# Altium schematic symbol library Diods.SchLib: 14 symbols
Pins are listed as number, name and electrical type; pins without a type are passive.

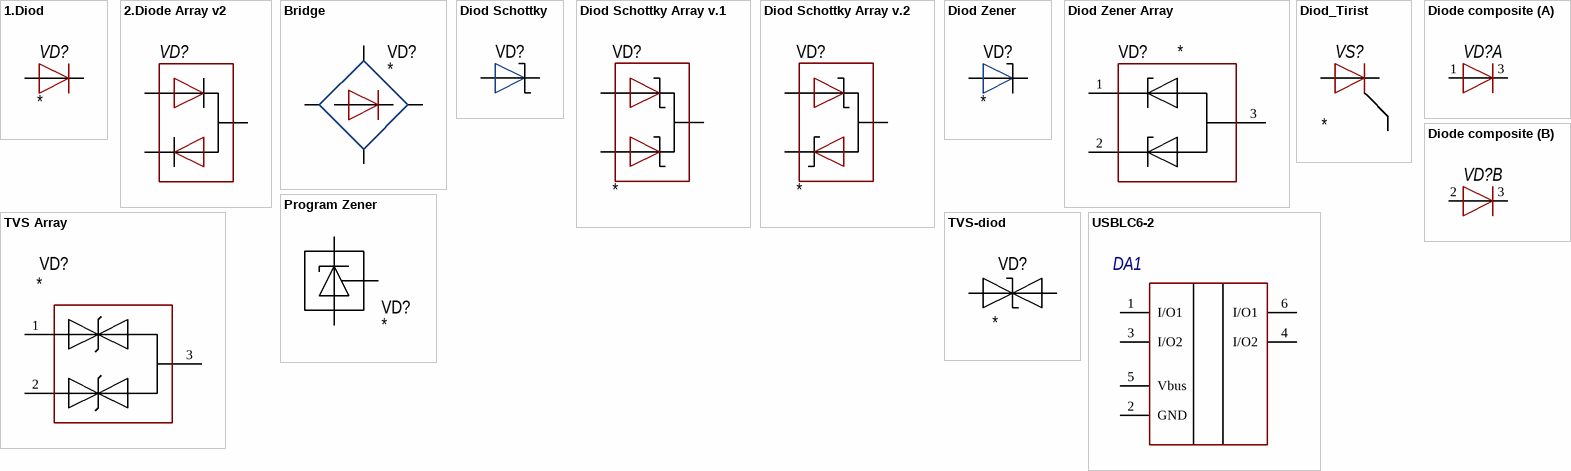
[diagram p0: symbols 1.Diod to USBLC6-2]

## 1.Diod
designator VD?
ComponentKind: *; Manufacturer: *; Model: *; HelpURL: *
footprint SMA
footprint SOT23_123 (SOT23, 3-Leads, Body 3,0x2,6mm (max), Pitch 0,95mm, IPC Medium Density)
footprint SOT23_132 (SOT23, 3-Leads, Body 3,0x2,6mm (max), Pitch 0,95mm, IPC Medium Density)
footprint SOT23_231 (SOT23, 3-Leads, Body 3,0x2,6mm (max), Pitch 0,95mm, IPC Medium Density)
footprint SOD123
footprint SOD123F (Schottky Diode, 2-Leads, Body 3x2mm, 0.4W)
footprint SOD323
footprint SOD80
footprint TO247_13 (3-Lead Plastic TO-247)
footprint SOD123W
footprint SMB
footprint DIOD: PowerDI-5
footprint TO220FPAC
footprint TO220-2
footprint SMC
pins: 1, 2

## 2.Diode Array v2
designator VD?  (value not drawn)
footprint SOT23_132 (SOT23, 3-Leads, Body 3,0x2,6mm (max), Pitch 0,95mm, IPC Medium Density)
pins: 1, 2, 3

## Bridge
designator VD?
ComponentKind: *; Manufacturer: *; Model: *; HelpURL: *
footprint DIOD: KBU6M
footprint DIOD: MBxx (SMD Diode Bridge)
footprint DIOD: DF206S-G
footprint DIOD: GBU (SMD Diode Bridge)
footprint DIOD: CD-MBL2
pins: 1, 2, 3, 4

## Diod Schottky
designator VD?  (value not drawn)
ComponentKind: *; Manufacturer: *; Model: *; HelpURL: *
footprint SOT23_123 (SOT23, 3-Leads, Body 3,0x2,6mm (max), Pitch 0,95mm, IPC Medium Density)
footprint SOT23_132 (SOT23, 3-Leads, Body 3,0x2,6mm (max), Pitch 0,95mm, IPC Medium Density)
footprint SOT23_231 (SOT23, 3-Leads, Body 3,0x2,6mm (max), Pitch 0,95mm, IPC Medium Density)
footprint SOD123
footprint SOD123F (Schottky Diode, 2-Leads, Body 3x2mm, 0.4W)
footprint SOD323
footprint SOD80
footprint SMA
footprint DO221AA
footprint SOD123W
footprint SMB
footprint SMC
footprint TO220FPAC
footprint DPAK - 21 (D-Pak, Body 6,2x6,7mm)
footprint TO220-2
footprint TO220-2 _H
pins: 1, 2

## Diod Schottky Array v.1
designator VD?
ComponentKind: *; Manufacturer: *; Model: *; HelpURL: *
footprint DPAK (D-Pak, Body 6,2x6,7mm)
footprint DPAK_132 (D-Pak, Body 6,2x6,7mm)
footprint D2PAK (D-PAK, 3-Pads, Body 6,2x6,7mm (max), IPC Medium Density)
footprint D2PAK_132 (D-PAK, 3-Pads, Body 6,2x6,7mm (max), IPC Medium Density)
footprint SOT23_123 (SOT23, 3-Leads, Body 3,0x2,6mm (max), Pitch 0,95mm, IPC Medium Density)
pins: 1, 2, 3

## Diod Schottky Array v.2
designator VD?
ComponentKind: *; Manufacturer: *; Model: *; HelpURL: *
footprint DPAK (D-Pak, Body 6,2x6,7mm)
footprint DPAK_132 (D-Pak, Body 6,2x6,7mm)
footprint D2PAK (D-PAK, 3-Pads, Body 6,2x6,7mm (max), IPC Medium Density)
footprint D2PAK_132 (D-PAK, 3-Pads, Body 6,2x6,7mm (max), IPC Medium Density)
footprint SOT23_123 (SOT23, 3-Leads, Body 3,0x2,6mm (max), Pitch 0,95mm, IPC Medium Density)
pins: 1, 2, 3

## Diod Zener
designator VD?
ComponentKind: *; Manufacturer: *; Model: *; HelpURL: *
footprint SMA
footprint SMB (DO-214-AA/SMB)
footprint SMC
footprint SOT23_123 (SOT23, 3-Leads, Body 3,0x2,6mm (max), Pitch 0,95mm, IPC Medium Density)
footprint SOT23_132 (SOT23, 3-Leads, Body 3,0x2,6mm (max), Pitch 0,95mm, IPC Medium Density)
footprint SOT23_231 (SOT23, 3-Leads, Body 3,0x2,6mm (max), Pitch 0,95mm, IPC Medium Density)
footprint SOD123
footprint SOD123F (Schottky Diode, 2-Leads, Body 3x2mm, 0.4W)
footprint SOD323
footprint SOD80
footprint SOD123W
footprint SMB
footprint SOD523
pins: 1 A, 2 C

## Diod Zener Array
designator VD?
ComponentKind: *; Manufacturer: *; Model: *; HelpURL: *
footprint SOT23_123 (SOT23, 3-Leads, Body 3,0x2,6mm (max), Pitch 0,95mm, IPC Medium Density)
footprint SOT23_132 (SOT23, 3-Leads, Body 3,0x2,6mm (max), Pitch 0,95mm, IPC Medium Density)
footprint SOT23_231 (SOT23, 3-Leads, Body 3,0x2,6mm (max), Pitch 0,95mm, IPC Medium Density)
footprint SOT23_321 (SOT23, 3-Leads, Body 3,0x2,6mm (max), Pitch 0,95mm, IPC Medium Density)
pins: 1, 2, 3

## Diod_Tirist
designator VS?
ComponentKind: *; Manufacturer: *; Model: *; HelpURL: *
footprint SOT23_123 (SOT23, 3-Leads, Body 3,0x2,6mm (max), Pitch 0,95mm, IPC Medium Density)
footprint SOT23_132 (SOT23, 3-Leads, Body 3,0x2,6mm (max), Pitch 0,95mm, IPC Medium Density)
footprint SOT23_231 (SOT23, 3-Leads, Body 3,0x2,6mm (max), Pitch 0,95mm, IPC Medium Density)
pins: 1, 2, 3

## Diode composite
designator VD?  (value not drawn)
ComponentKind: *; Manufacturer: *; Model: *; HelpURL: *
footprint SOT23_123 (SOT23, 3-Leads, Body 3,0x2,6mm (max), Pitch 0,95mm, IPC Medium Density)
footprint SOT23_132 (SOT23, 3-Leads, Body 3,0x2,6mm (max), Pitch 0,95mm, IPC Medium Density)
footprint SOT23_231 (SOT23, 3-Leads, Body 3,0x2,6mm (max), Pitch 0,95mm, IPC Medium Density)
part A pins: 1, 3
part B pins: 2, 3

## Program Zener
designator VD?
ComponentKind: *; Manufacturer: *; Model: *; HelpURL: *
footprint SOT23_123 (SOT23, 3-Leads, Body 3,0x2,6mm (max), Pitch 0,95mm, IPC Medium Density)
footprint SOT23_132 (SOT23, 3-Leads, Body 3,0x2,6mm (max), Pitch 0,95mm, IPC Medium Density)
footprint SOT23_231 (SOT23, 3-Leads, Body 3,0x2,6mm (max), Pitch 0,95mm, IPC Medium Density)
pins: 1, 2, 3

## TVS Array
designator VD?
ComponentKind: *; Manufacturer: *; Model: *; HelpURL: *
footprint SOT23_123 (SOT23, 3-Leads, Body 3,0x2,6mm (max), Pitch 0,95mm, IPC Medium Density)
footprint SOT23_132 (SOT23, 3-Leads, Body 3,0x2,6mm (max), Pitch 0,95mm, IPC Medium Density)
footprint SOT23_231 (SOT23, 3-Leads, Body 3,0x2,6mm (max), Pitch 0,95mm, IPC Medium Density)
footprint SOT23_321 (SOT23, 3-Leads, Body 3,0x2,6mm (max), Pitch 0,95mm, IPC Medium Density)
pins: 1, 2, 3

## TVS-diod
designator VD?
ComponentKind: *; Manufacturer: *; Model: *; HelpURL: *
footprint SMA
footprint SMB (DO-214-AA/SMB)
footprint SMC
footprint SOT23_123 (SOT23, 3-Leads, Body 3,0x2,6mm (max), Pitch 0,95mm, IPC Medium Density)
footprint SOT23_132 (SOT23, 3-Leads, Body 3,0x2,6mm (max), Pitch 0,95mm, IPC Medium Density)
footprint SOT23_231 (SOT23, 3-Leads, Body 3,0x2,6mm (max), Pitch 0,95mm, IPC Medium Density)
footprint SOD123
footprint SOD123F (Schottky Diode, 2-Leads, Body 3x2mm, 0.4W)
footprint SOD323
footprint SOD80
footprint SOD123W
footprint SMB
footprint SOD523
pins: 1 A, 2 C

## USBLC6-2
designator DA1  (value not drawn)
footprint TVS USBLC6-2
pins: 1 I/O1, 2 GND, 3 I/O2, 4 I/O2, 5 Vbus, 6 I/O1